# Altium integrated library Maxim Converter Data Acquisition System.IntLib: 26 symbols
Pins are listed as number, name and electrical type; pins without a type are passive.

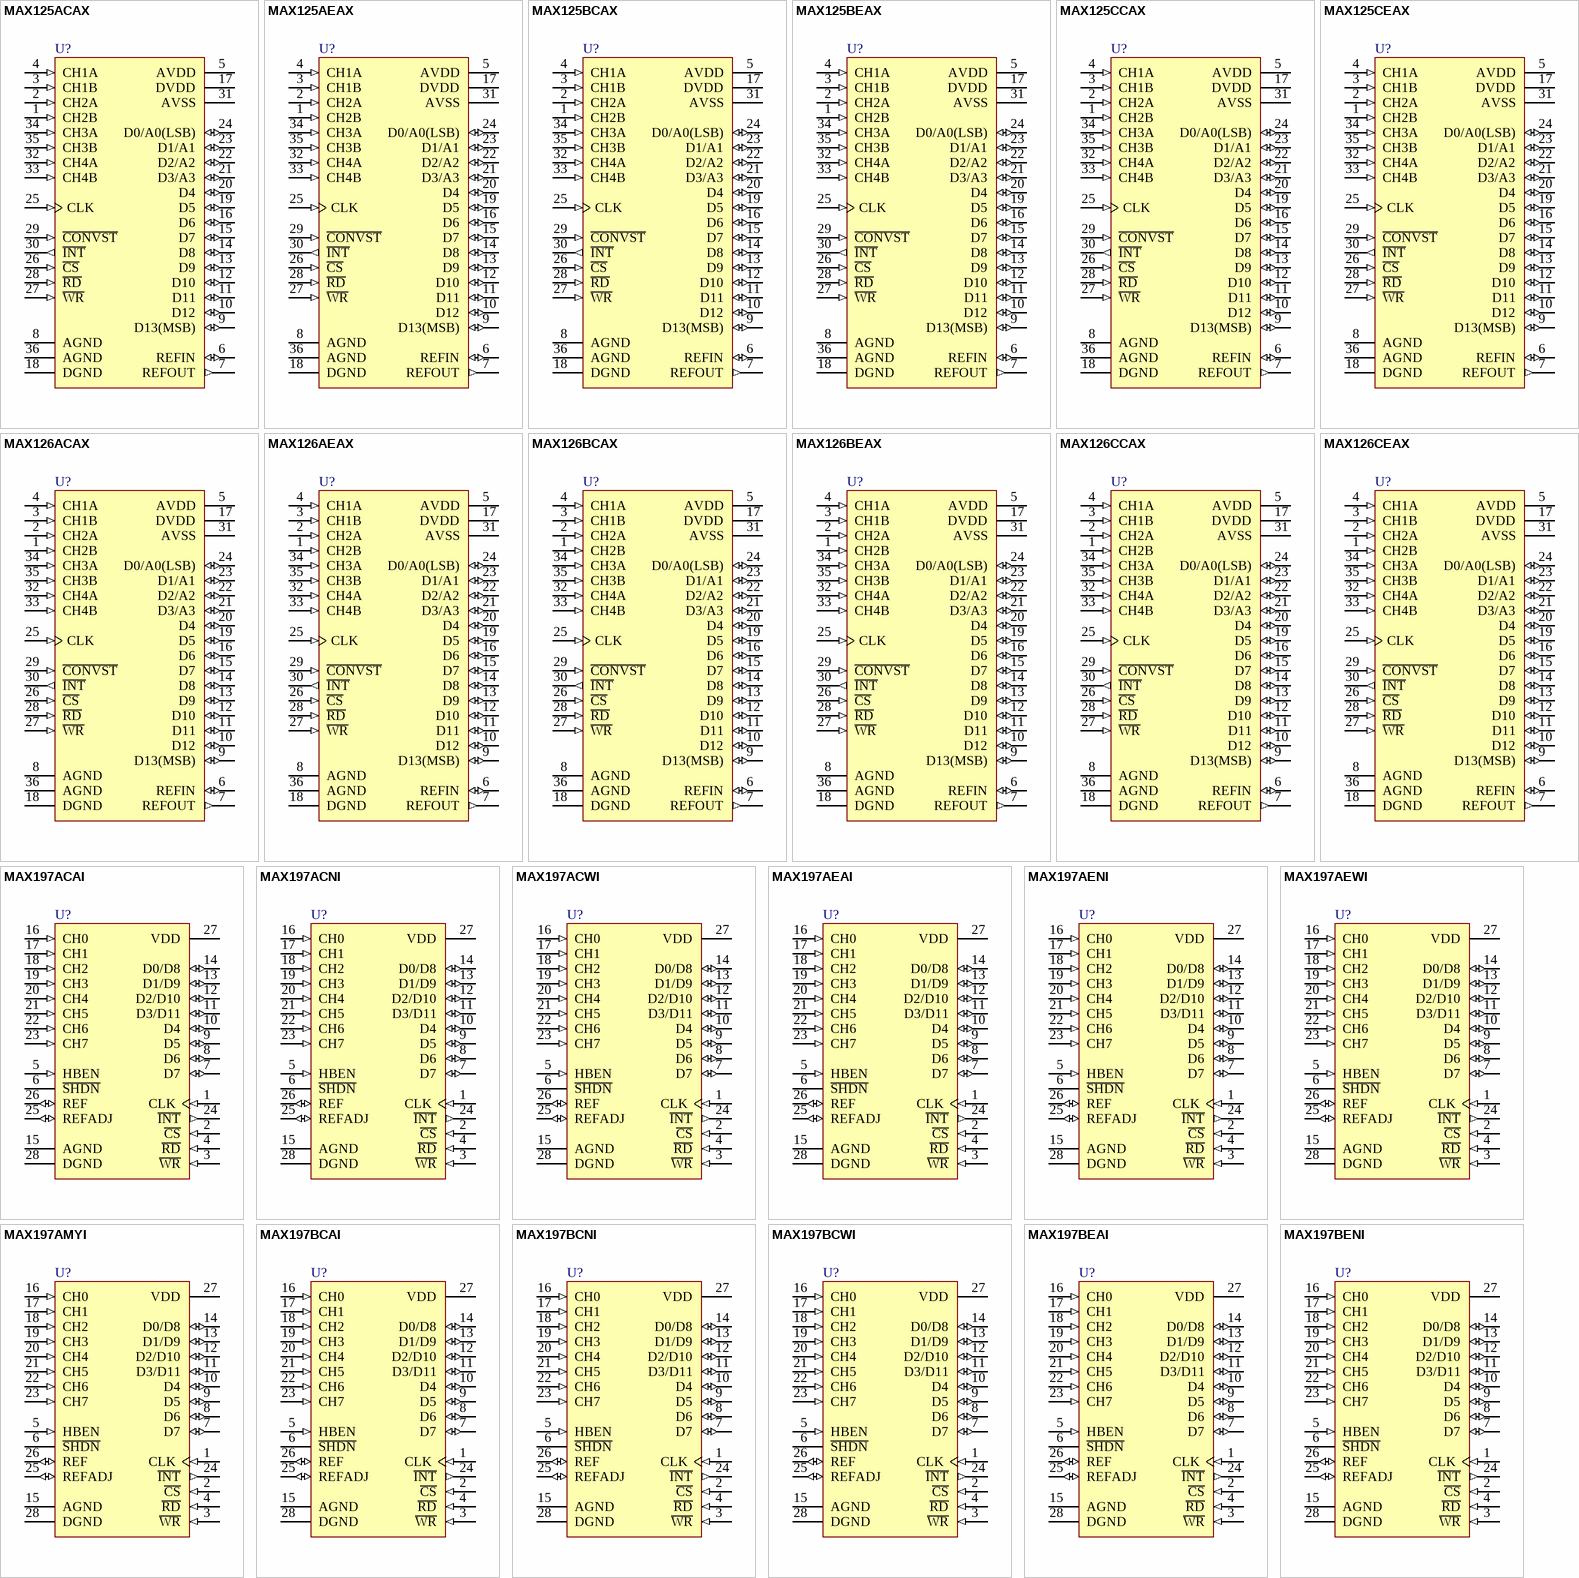
[diagram p0: symbols MAX125ACAX to MAX197BENI]

## MAX125ACAX
designator U?
2x4-Channel, Simultaneous-Sampling 14-Bit DAS; Published: 16-Jan-2001; LatestRevisionDate: 13-Apr-2006; LatestRevisionNote: IPC-7351 Footprint Added.; DatasheetVersion: Jan-1998; PackageVersion: Jan-1998; PackageReference: SSOP36; Publisher: Altium Limited; PackageDescription: 36-Pin Small Outline Package 0.8 mm Pitch; ComponentLink1Description: Manufacturer Link; ComponentLink1URL: http://www.maxim-ic.com/; ComponentLink2Description: Datasheet; ComponentLink2URL: http://pdfserv.maxim-ic.com/en/ds/MAX125-MAX126.pdf
footprint SSOP36_N (SOP, 36-Leads, Body 15.4x7.5mm, Pitch 0.8mm, IPC Medium Density)
footprint SSOP36_L (SOP, 36-Leads, Body 15.4x7.5mm, Pitch 0.8mm, IPC High Density)
footprint SSOP36_M (SOP, 36-Leads, Body 15.4x7.5mm, Pitch 0.8mm, IPC Low Density)
3D model SSOP36 (36-Pin Small Outline Package 0.8 mm Pitch)
pins: 1 CH2B (in), 2 CH2A (in), 3 CH1B (in), 4 CH1A (in), 5 AVDD (power), 6 REFIN (io), 7 REFOUT (out), 8 AGND (power), 9 D13(MSB) (io), 10 D12 (io), 11 D11 (io), 12 D10 (io), 13 D9 (io), 14 D8 (io), 15 D7 (io), 16 D6 (io), 17 DVDD (power), 18 DGND (power), 19 D5 (io), 20 D4 (io), 21 D3/A3 (io), 22 D2/A2 (io), 23 D1/A1 (io), 24 D0/A0(LSB) (io), 25 CLK (in), 26 ~{CS} (in), 27 ~{WR} (in), 28 ~{RD} (in), 29 ~{CONVST} (in), 30 ~{INT} (out), 31 AVSS (power), 32 CH4A (in), 33 CH4B (in), 34 CH3A (in), 35 CH3B (in), 36 AGND (power)

## MAX125AEAX
designator U?
2x4-Channel, Simultaneous-Sampling 14-Bit DAS; Published: 16-Jan-2001; LatestRevisionDate: 13-Apr-2006; LatestRevisionNote: IPC-7351 Footprint Added.; DatasheetVersion: Jan-1998; PackageVersion: Jan-1998; PackageReference: SSOP36; Publisher: Altium Limited; PackageDescription: 36-Pin Small Outline Package 0.8 mm Pitch; ComponentLink1Description: Manufacturer Link; ComponentLink1URL: http://www.maxim-ic.com/; ComponentLink2Description: Datasheet; ComponentLink2URL: http://pdfserv.maxim-ic.com/en/ds/MAX125-MAX126.pdf
footprint SSOP36_N (SOP, 36-Leads, Body 15.4x7.5mm, Pitch 0.8mm, IPC Medium Density)
footprint SSOP36_L (SOP, 36-Leads, Body 15.4x7.5mm, Pitch 0.8mm, IPC High Density)
footprint SSOP36_M (SOP, 36-Leads, Body 15.4x7.5mm, Pitch 0.8mm, IPC Low Density)
3D model SSOP36 (36-Pin Small Outline Package 0.8 mm Pitch)
pins: 1 CH2B (in), 2 CH2A (in), 3 CH1B (in), 4 CH1A (in), 5 AVDD (power), 6 REFIN (io), 7 REFOUT (out), 8 AGND (power), 9 D13(MSB) (io), 10 D12 (io), 11 D11 (io), 12 D10 (io), 13 D9 (io), 14 D8 (io), 15 D7 (io), 16 D6 (io), 17 DVDD (power), 18 DGND (power), 19 D5 (io), 20 D4 (io), 21 D3/A3 (io), 22 D2/A2 (io), 23 D1/A1 (io), 24 D0/A0(LSB) (io), 25 CLK (in), 26 ~{CS} (in), 27 ~{WR} (in), 28 ~{RD} (in), 29 ~{CONVST} (in), 30 ~{INT} (out), 31 AVSS (power), 32 CH4A (in), 33 CH4B (in), 34 CH3A (in), 35 CH3B (in), 36 AGND (power)

## MAX125BCAX
designator U?
2x4-Channel, Simultaneous-Sampling 14-Bit DAS; Published: 16-Jan-2001; LatestRevisionDate: 13-Apr-2006; LatestRevisionNote: IPC-7351 Footprint Added.; DatasheetVersion: Jan-1998; PackageVersion: Jan-1998; PackageReference: SSOP36; Publisher: Altium Limited; PackageDescription: 36-Pin Small Outline Package 0.8 mm Pitch; ComponentLink1Description: Manufacturer Link; ComponentLink1URL: http://www.maxim-ic.com/; ComponentLink2Description: Datasheet; ComponentLink2URL: http://pdfserv.maxim-ic.com/en/ds/MAX125-MAX126.pdf
footprint SSOP36_N (SOP, 36-Leads, Body 15.4x7.5mm, Pitch 0.8mm, IPC Medium Density)
footprint SSOP36_L (SOP, 36-Leads, Body 15.4x7.5mm, Pitch 0.8mm, IPC High Density)
footprint SSOP36_M (SOP, 36-Leads, Body 15.4x7.5mm, Pitch 0.8mm, IPC Low Density)
3D model SSOP36 (36-Pin Small Outline Package 0.8 mm Pitch)
pins: 1 CH2B (in), 2 CH2A (in), 3 CH1B (in), 4 CH1A (in), 5 AVDD (power), 6 REFIN (io), 7 REFOUT (out), 8 AGND (power), 9 D13(MSB) (io), 10 D12 (io), 11 D11 (io), 12 D10 (io), 13 D9 (io), 14 D8 (io), 15 D7 (io), 16 D6 (io), 17 DVDD (power), 18 DGND (power), 19 D5 (io), 20 D4 (io), 21 D3/A3 (io), 22 D2/A2 (io), 23 D1/A1 (io), 24 D0/A0(LSB) (io), 25 CLK (in), 26 ~{CS} (in), 27 ~{WR} (in), 28 ~{RD} (in), 29 ~{CONVST} (in), 30 ~{INT} (out), 31 AVSS (power), 32 CH4A (in), 33 CH4B (in), 34 CH3A (in), 35 CH3B (in), 36 AGND (power)

## MAX125BEAX
designator U?
2x4-Channel, Simultaneous-Sampling 14-Bit DAS; Published: 16-Jan-2001; LatestRevisionDate: 13-Apr-2006; LatestRevisionNote: IPC-7351 Footprint Added.; DatasheetVersion: Jan-1998; PackageVersion: Jan-1998; PackageReference: SSOP36; Publisher: Altium Limited; PackageDescription: 36-Pin Small Outline Package 0.8 mm Pitch; ComponentLink1Description: Manufacturer Link; ComponentLink1URL: http://www.maxim-ic.com/; ComponentLink2Description: Datasheet; ComponentLink2URL: http://pdfserv.maxim-ic.com/en/ds/MAX125-MAX126.pdf
footprint SSOP36_N (SOP, 36-Leads, Body 15.4x7.5mm, Pitch 0.8mm, IPC Medium Density)
footprint SSOP36_L (SOP, 36-Leads, Body 15.4x7.5mm, Pitch 0.8mm, IPC High Density)
footprint SSOP36_M (SOP, 36-Leads, Body 15.4x7.5mm, Pitch 0.8mm, IPC Low Density)
3D model SSOP36 (36-Pin Small Outline Package 0.8 mm Pitch)
pins: 1 CH2B (in), 2 CH2A (in), 3 CH1B (in), 4 CH1A (in), 5 AVDD (power), 6 REFIN (io), 7 REFOUT (out), 8 AGND (power), 9 D13(MSB) (io), 10 D12 (io), 11 D11 (io), 12 D10 (io), 13 D9 (io), 14 D8 (io), 15 D7 (io), 16 D6 (io), 17 DVDD (power), 18 DGND (power), 19 D5 (io), 20 D4 (io), 21 D3/A3 (io), 22 D2/A2 (io), 23 D1/A1 (io), 24 D0/A0(LSB) (io), 25 CLK (in), 26 ~{CS} (in), 27 ~{WR} (in), 28 ~{RD} (in), 29 ~{CONVST} (in), 30 ~{INT} (out), 31 AVSS (power), 32 CH4A (in), 33 CH4B (in), 34 CH3A (in), 35 CH3B (in), 36 AGND (power)

## MAX125CCAX
designator U?
2x4-Channel, Simultaneous-Sampling 14-Bit DAS; Published: 16-Jan-2001; LatestRevisionDate: 13-Apr-2006; LatestRevisionNote: IPC-7351 Footprint Added.; DatasheetVersion: Jan-1998; PackageVersion: Jan-1998; PackageReference: SSOP36; Publisher: Altium Limited; PackageDescription: 36-Pin Small Outline Package 0.8 mm Pitch; ComponentLink1Description: Manufacturer Link; ComponentLink1URL: http://www.maxim-ic.com/; ComponentLink2Description: Datasheet; ComponentLink2URL: http://pdfserv.maxim-ic.com/en/ds/MAX125-MAX126.pdf
footprint SSOP36_N (SOP, 36-Leads, Body 15.4x7.5mm, Pitch 0.8mm, IPC Medium Density)
footprint SSOP36_L (SOP, 36-Leads, Body 15.4x7.5mm, Pitch 0.8mm, IPC High Density)
footprint SSOP36_M (SOP, 36-Leads, Body 15.4x7.5mm, Pitch 0.8mm, IPC Low Density)
3D model SSOP36 (36-Pin Small Outline Package 0.8 mm Pitch)
pins: 1 CH2B (in), 2 CH2A (in), 3 CH1B (in), 4 CH1A (in), 5 AVDD (power), 6 REFIN (io), 7 REFOUT (out), 8 AGND (power), 9 D13(MSB) (io), 10 D12 (io), 11 D11 (io), 12 D10 (io), 13 D9 (io), 14 D8 (io), 15 D7 (io), 16 D6 (io), 17 DVDD (power), 18 DGND (power), 19 D5 (io), 20 D4 (io), 21 D3/A3 (io), 22 D2/A2 (io), 23 D1/A1 (io), 24 D0/A0(LSB) (io), 25 CLK (in), 26 ~{CS} (in), 27 ~{WR} (in), 28 ~{RD} (in), 29 ~{CONVST} (in), 30 ~{INT} (out), 31 AVSS (power), 32 CH4A (in), 33 CH4B (in), 34 CH3A (in), 35 CH3B (in), 36 AGND (power)

## MAX125CEAX
designator U?
2x4-Channel, Simultaneous-Sampling 14-Bit DAS; Published: 16-Jan-2001; LatestRevisionDate: 13-Apr-2006; LatestRevisionNote: IPC-7351 Footprint Added.; DatasheetVersion: Jan-1998; PackageVersion: Jan-1998; PackageReference: SSOP36; Publisher: Altium Limited; PackageDescription: 36-Pin Small Outline Package 0.8 mm Pitch; ComponentLink1Description: Manufacturer Link; ComponentLink1URL: http://www.maxim-ic.com/; ComponentLink2Description: Datasheet; ComponentLink2URL: http://pdfserv.maxim-ic.com/en/ds/MAX125-MAX126.pdf
footprint SSOP36_N (SOP, 36-Leads, Body 15.4x7.5mm, Pitch 0.8mm, IPC Medium Density)
footprint SSOP36_L (SOP, 36-Leads, Body 15.4x7.5mm, Pitch 0.8mm, IPC High Density)
footprint SSOP36_M (SOP, 36-Leads, Body 15.4x7.5mm, Pitch 0.8mm, IPC Low Density)
3D model SSOP36 (36-Pin Small Outline Package 0.8 mm Pitch)
pins: 1 CH2B (in), 2 CH2A (in), 3 CH1B (in), 4 CH1A (in), 5 AVDD (power), 6 REFIN (io), 7 REFOUT (out), 8 AGND (power), 9 D13(MSB) (io), 10 D12 (io), 11 D11 (io), 12 D10 (io), 13 D9 (io), 14 D8 (io), 15 D7 (io), 16 D6 (io), 17 DVDD (power), 18 DGND (power), 19 D5 (io), 20 D4 (io), 21 D3/A3 (io), 22 D2/A2 (io), 23 D1/A1 (io), 24 D0/A0(LSB) (io), 25 CLK (in), 26 ~{CS} (in), 27 ~{WR} (in), 28 ~{RD} (in), 29 ~{CONVST} (in), 30 ~{INT} (out), 31 AVSS (power), 32 CH4A (in), 33 CH4B (in), 34 CH3A (in), 35 CH3B (in), 36 AGND (power)

## MAX126ACAX
designator U?
2x4-Channel, Simultaneous-Sampling 14-Bit DAS; Published: 16-Jan-2001; LatestRevisionDate: 13-Apr-2006; LatestRevisionNote: IPC-7351 Footprint Added.; DatasheetVersion: Jan-1998; PackageVersion: Jan-1998; PackageReference: SSOP36; Publisher: Altium Limited; PackageDescription: 36-Pin Small Outline Package 0.8 mm Pitch; ComponentLink1Description: Manufacturer Link; ComponentLink1URL: http://www.maxim-ic.com/; ComponentLink2Description: Datasheet; ComponentLink2URL: http://pdfserv.maxim-ic.com/en/ds/MAX125-MAX126.pdf
footprint SSOP36_N (SOP, 36-Leads, Body 15.4x7.5mm, Pitch 0.8mm, IPC Medium Density)
footprint SSOP36_L (SOP, 36-Leads, Body 15.4x7.5mm, Pitch 0.8mm, IPC High Density)
footprint SSOP36_M (SOP, 36-Leads, Body 15.4x7.5mm, Pitch 0.8mm, IPC Low Density)
3D model SSOP36 (36-Pin Small Outline Package 0.8 mm Pitch)
pins: 1 CH2B (in), 2 CH2A (in), 3 CH1B (in), 4 CH1A (in), 5 AVDD (power), 6 REFIN (io), 7 REFOUT (out), 8 AGND (power), 9 D13(MSB) (io), 10 D12 (io), 11 D11 (io), 12 D10 (io), 13 D9 (io), 14 D8 (io), 15 D7 (io), 16 D6 (io), 17 DVDD (power), 18 DGND (power), 19 D5 (io), 20 D4 (io), 21 D3/A3 (io), 22 D2/A2 (io), 23 D1/A1 (io), 24 D0/A0(LSB) (io), 25 CLK (in), 26 ~{CS} (in), 27 ~{WR} (in), 28 ~{RD} (in), 29 ~{CONVST} (in), 30 ~{INT} (out), 31 AVSS (power), 32 CH4A (in), 33 CH4B (in), 34 CH3A (in), 35 CH3B (in), 36 AGND (power)

## MAX126AEAX
designator U?
2x4-Channel, Simultaneous-Sampling 14-Bit DAS; Published: 16-Jan-2001; LatestRevisionDate: 13-Apr-2006; LatestRevisionNote: IPC-7351 Footprint Added.; DatasheetVersion: Jan-1998; PackageVersion: Jan-1998; PackageReference: SSOP36; Publisher: Altium Limited; PackageDescription: 36-Pin Small Outline Package 0.8 mm Pitch; ComponentLink1Description: Manufacturer Link; ComponentLink1URL: http://www.maxim-ic.com/; ComponentLink2Description: Datasheet; ComponentLink2URL: http://pdfserv.maxim-ic.com/en/ds/MAX125-MAX126.pdf
footprint SSOP36_N (SOP, 36-Leads, Body 15.4x7.5mm, Pitch 0.8mm, IPC Medium Density)
footprint SSOP36_L (SOP, 36-Leads, Body 15.4x7.5mm, Pitch 0.8mm, IPC High Density)
footprint SSOP36_M (SOP, 36-Leads, Body 15.4x7.5mm, Pitch 0.8mm, IPC Low Density)
3D model SSOP36 (36-Pin Small Outline Package 0.8 mm Pitch)
pins: 1 CH2B (in), 2 CH2A (in), 3 CH1B (in), 4 CH1A (in), 5 AVDD (power), 6 REFIN (io), 7 REFOUT (out), 8 AGND (power), 9 D13(MSB) (io), 10 D12 (io), 11 D11 (io), 12 D10 (io), 13 D9 (io), 14 D8 (io), 15 D7 (io), 16 D6 (io), 17 DVDD (power), 18 DGND (power), 19 D5 (io), 20 D4 (io), 21 D3/A3 (io), 22 D2/A2 (io), 23 D1/A1 (io), 24 D0/A0(LSB) (io), 25 CLK (in), 26 ~{CS} (in), 27 ~{WR} (in), 28 ~{RD} (in), 29 ~{CONVST} (in), 30 ~{INT} (out), 31 AVSS (power), 32 CH4A (in), 33 CH4B (in), 34 CH3A (in), 35 CH3B (in), 36 AGND (power)

## MAX126BCAX
designator U?
2x4-Channel, Simultaneous-Sampling 14-Bit DAS; Published: 16-Jan-2001; LatestRevisionDate: 13-Apr-2006; LatestRevisionNote: IPC-7351 Footprint Added.; DatasheetVersion: Jan-1998; PackageVersion: Jan-1998; PackageReference: SSOP36; Publisher: Altium Limited; PackageDescription: 36-Pin Small Outline Package 0.8 mm Pitch; ComponentLink1Description: Manufacturer Link; ComponentLink1URL: http://www.maxim-ic.com/; ComponentLink2Description: Datasheet; ComponentLink2URL: http://pdfserv.maxim-ic.com/en/ds/MAX125-MAX126.pdf
footprint SSOP36_N (SOP, 36-Leads, Body 15.4x7.5mm, Pitch 0.8mm, IPC Medium Density)
footprint SSOP36_L (SOP, 36-Leads, Body 15.4x7.5mm, Pitch 0.8mm, IPC High Density)
footprint SSOP36_M (SOP, 36-Leads, Body 15.4x7.5mm, Pitch 0.8mm, IPC Low Density)
3D model SSOP36 (36-Pin Small Outline Package 0.8 mm Pitch)
pins: 1 CH2B (in), 2 CH2A (in), 3 CH1B (in), 4 CH1A (in), 5 AVDD (power), 6 REFIN (io), 7 REFOUT (out), 8 AGND (power), 9 D13(MSB) (io), 10 D12 (io), 11 D11 (io), 12 D10 (io), 13 D9 (io), 14 D8 (io), 15 D7 (io), 16 D6 (io), 17 DVDD (power), 18 DGND (power), 19 D5 (io), 20 D4 (io), 21 D3/A3 (io), 22 D2/A2 (io), 23 D1/A1 (io), 24 D0/A0(LSB) (io), 25 CLK (in), 26 ~{CS} (in), 27 ~{WR} (in), 28 ~{RD} (in), 29 ~{CONVST} (in), 30 ~{INT} (out), 31 AVSS (power), 32 CH4A (in), 33 CH4B (in), 34 CH3A (in), 35 CH3B (in), 36 AGND (power)

## MAX126BEAX
designator U?
2x4-Channel, Simultaneous-Sampling 14-Bit DAS; Published: 16-Jan-2001; LatestRevisionDate: 13-Apr-2006; LatestRevisionNote: IPC-7351 Footprint Added.; DatasheetVersion: Jan-1998; PackageVersion: Jan-1998; PackageReference: SSOP36; Publisher: Altium Limited; PackageDescription: 36-Pin Small Outline Package 0.8 mm Pitch; ComponentLink1Description: Manufacturer Link; ComponentLink1URL: http://www.maxim-ic.com/; ComponentLink2Description: Datasheet; ComponentLink2URL: http://pdfserv.maxim-ic.com/en/ds/MAX125-MAX126.pdf
footprint SSOP36_N (SOP, 36-Leads, Body 15.4x7.5mm, Pitch 0.8mm, IPC Medium Density)
footprint SSOP36_L (SOP, 36-Leads, Body 15.4x7.5mm, Pitch 0.8mm, IPC High Density)
footprint SSOP36_M (SOP, 36-Leads, Body 15.4x7.5mm, Pitch 0.8mm, IPC Low Density)
3D model SSOP36 (36-Pin Small Outline Package 0.8 mm Pitch)
pins: 1 CH2B (in), 2 CH2A (in), 3 CH1B (in), 4 CH1A (in), 5 AVDD (power), 6 REFIN (io), 7 REFOUT (out), 8 AGND (power), 9 D13(MSB) (io), 10 D12 (io), 11 D11 (io), 12 D10 (io), 13 D9 (io), 14 D8 (io), 15 D7 (io), 16 D6 (io), 17 DVDD (power), 18 DGND (power), 19 D5 (io), 20 D4 (io), 21 D3/A3 (io), 22 D2/A2 (io), 23 D1/A1 (io), 24 D0/A0(LSB) (io), 25 CLK (in), 26 ~{CS} (in), 27 ~{WR} (in), 28 ~{RD} (in), 29 ~{CONVST} (in), 30 ~{INT} (out), 31 AVSS (power), 32 CH4A (in), 33 CH4B (in), 34 CH3A (in), 35 CH3B (in), 36 AGND (power)

## MAX126CCAX
designator U?
2x4-Channel, Simultaneous-Sampling 14-Bit DAS; Published: 16-Jan-2001; LatestRevisionDate: 13-Apr-2006; LatestRevisionNote: IPC-7351 Footprint Added.; DatasheetVersion: Jan-1998; PackageVersion: Jan-1998; PackageReference: SSOP36; Publisher: Altium Limited; PackageDescription: 36-Pin Small Outline Package 0.8 mm Pitch; ComponentLink1Description: Manufacturer Link; ComponentLink1URL: http://www.maxim-ic.com/; ComponentLink2Description: Datasheet; ComponentLink2URL: http://pdfserv.maxim-ic.com/en/ds/MAX125-MAX126.pdf
footprint SSOP36_N (SOP, 36-Leads, Body 15.4x7.5mm, Pitch 0.8mm, IPC Medium Density)
footprint SSOP36_L (SOP, 36-Leads, Body 15.4x7.5mm, Pitch 0.8mm, IPC High Density)
footprint SSOP36_M (SOP, 36-Leads, Body 15.4x7.5mm, Pitch 0.8mm, IPC Low Density)
3D model SSOP36 (36-Pin Small Outline Package 0.8 mm Pitch)
pins: 1 CH2B (in), 2 CH2A (in), 3 CH1B (in), 4 CH1A (in), 5 AVDD (power), 6 REFIN (io), 7 REFOUT (out), 8 AGND (power), 9 D13(MSB) (io), 10 D12 (io), 11 D11 (io), 12 D10 (io), 13 D9 (io), 14 D8 (io), 15 D7 (io), 16 D6 (io), 17 DVDD (power), 18 DGND (power), 19 D5 (io), 20 D4 (io), 21 D3/A3 (io), 22 D2/A2 (io), 23 D1/A1 (io), 24 D0/A0(LSB) (io), 25 CLK (in), 26 ~{CS} (in), 27 ~{WR} (in), 28 ~{RD} (in), 29 ~{CONVST} (in), 30 ~{INT} (out), 31 AVSS (power), 32 CH4A (in), 33 CH4B (in), 34 CH3A (in), 35 CH3B (in), 36 AGND (power)

## MAX126CEAX
designator U?
2x4-Channel, Simultaneous-Sampling 14-Bit DAS; Published: 16-Jan-2001; LatestRevisionDate: 13-Apr-2006; LatestRevisionNote: IPC-7351 Footprint Added.; DatasheetVersion: Jan-1998; PackageVersion: Jan-1998; PackageReference: SSOP36; Publisher: Altium Limited; PackageDescription: 36-Pin Small Outline Package 0.8 mm Pitch; ComponentLink1Description: Manufacturer Link; ComponentLink1URL: http://www.maxim-ic.com/; ComponentLink2Description: Datasheet; ComponentLink2URL: http://pdfserv.maxim-ic.com/en/ds/MAX125-MAX126.pdf
footprint SSOP36_N (SOP, 36-Leads, Body 15.4x7.5mm, Pitch 0.8mm, IPC Medium Density)
footprint SSOP36_L (SOP, 36-Leads, Body 15.4x7.5mm, Pitch 0.8mm, IPC High Density)
footprint SSOP36_M (SOP, 36-Leads, Body 15.4x7.5mm, Pitch 0.8mm, IPC Low Density)
3D model SSOP36 (36-Pin Small Outline Package 0.8 mm Pitch)
pins: 1 CH2B (in), 2 CH2A (in), 3 CH1B (in), 4 CH1A (in), 5 AVDD (power), 6 REFIN (io), 7 REFOUT (out), 8 AGND (power), 9 D13(MSB) (io), 10 D12 (io), 11 D11 (io), 12 D10 (io), 13 D9 (io), 14 D8 (io), 15 D7 (io), 16 D6 (io), 17 DVDD (power), 18 DGND (power), 19 D5 (io), 20 D4 (io), 21 D3/A3 (io), 22 D2/A2 (io), 23 D1/A1 (io), 24 D0/A0(LSB) (io), 25 CLK (in), 26 ~{CS} (in), 27 ~{WR} (in), 28 ~{RD} (in), 29 ~{CONVST} (in), 30 ~{INT} (out), 31 AVSS (power), 32 CH4A (in), 33 CH4B (in), 34 CH3A (in), 35 CH3B (in), 36 AGND (power)

## MAX197ACAI
designator U?
Single +5V 12-Bit DAS with 8+4 Bus Interface; Published: 16-Jan-2001; LatestRevisionDate: 29-May-2009; LatestRevisionNote: IPC-7351 Footprint Added.; DatasheetVersion: Jun-1996; PackageVersion: Jul-2000; PackageReference: SSOP28; Publisher: Altium Limited; PackageDescription: 28-Pin Small Outline Package 0.65 mm Pitch; Code_JEDEC: MO-150-AH; Code_IPC: SOP65P780-28; ComponentLink1Description: Manufacturer Link; ComponentLink1URL: http://www.maxim-ic.com/; ComponentLink2Description: Datasheet; ComponentLink2URL: http://pdfserv.maxim-ic.com/en/ds/MAX197.pdf
footprint SSOP28_N (SOP, 28-Leads, Body 10.2x5.3mm, Pitch 0.65mm, IPC Medium Density)
footprint SSOP28_L (SOP, 28-Leads, Body 10.2x5.3mm, Pitch 0.65mm, IPC High Density)
footprint SSOP28_M (SOP, 28-Leads, Body 10.2x5.3mm, Pitch 0.65mm, IPC Low Density)
3D model SSOP28 (28-Pin Small Outline Package 0.65 mm Pitch)
pins: 1 CLK (in), 2 ~{CS} (in), 3 ~{WR} (in), 4 ~{RD} (in), 5 HBEN (in), 6 ~{SHDN}, 7 D7 (io), 8 D6 (io), 9 D5 (io), 10 D4 (io), 11 D3/D11 (io), 12 D2/D10 (io), 13 D1/D9 (io), 14 D0/D8 (io), 15 AGND (power), 16 CH0 (in), 17 CH1 (in), 18 CH2 (in), 19 CH3 (in), 20 CH4 (in), 21 CH5 (in), 22 CH6 (in), 23 CH7 (in), 24 ~{INT} (out), 25 REFADJ (io), 26 REF (io), 27 VDD (power), 28 DGND (power)

## MAX197ACNI
designator U?
Single +5V 12-Bit DAS with 8+4 Bus Interface; Published: 16-Jan-2001; LatestRevisionDate: 29-May-2009; LatestRevisionNote: Component Body Added.; DatasheetVersion: Jun-1996; PackageVersion: Aug-2000; PackageReference: NI28; Publisher: Altium Limited; PackageDescription: DIP, 28-Pin, Row Spacing 7.62 mm, Pitch 2.54 mm; ComponentLink1Description: Manufacturer Link; ComponentLink1URL: http://www.maxim-ic.com/; ComponentLink2Description: Datasheet; ComponentLink2URL: http://pdfserv.maxim-ic.com/en/ds/MAX197.pdf
footprint NI28 (DIP, 28-Leads, Row Spacing 7.62mm, Pitch 2.54mm, Body 34.8x7.24mm)
3D model NI28 (DIP, 28-Pin, Row Spacing 7.62 mm, Pitch 2.54 mm)
pins: 1 CLK (in), 2 ~{CS} (in), 3 ~{WR} (in), 4 ~{RD} (in), 5 HBEN (in), 6 ~{SHDN}, 7 D7 (io), 8 D6 (io), 9 D5 (io), 10 D4 (io), 11 D3/D11 (io), 12 D2/D10 (io), 13 D1/D9 (io), 14 D0/D8 (io), 15 AGND (power), 16 CH0 (in), 17 CH1 (in), 18 CH2 (in), 19 CH3 (in), 20 CH4 (in), 21 CH5 (in), 22 CH6 (in), 23 CH7 (in), 24 ~{INT} (out), 25 REFADJ (io), 26 REF (io), 27 VDD (power), 28 DGND (power)

## MAX197ACWI
designator U?
Single +5V 12-Bit DAS with 8+4 Bus Interface; Published: 16-Jan-2001; LatestRevisionDate: 13-Apr-2006; LatestRevisionNote: IPC-7351 Footprint Added.; DatasheetVersion: Jun-1996; PackageReference: WSO28; Publisher: Altium Limited; PackageDescription: 28-Pin Small Outline Integrated Circuit 1.27 mm Pitch; ComponentLink1Description: Manufacturer Link; ComponentLink1URL: http://www.maxim-ic.com/; ComponentLink2Description: Datasheet; ComponentLink2URL: http://pdfserv.maxim-ic.com/en/ds/MAX197.pdf
footprint WSO28_N (SOIC, 28-Leads, Body 17.9x7.5mm, Pitch 1.27mm, IPC Medium Density)
footprint WSO28_L (SOIC, 28-Leads, Body 17.9x7.5mm, Pitch 1.27mm, IPC High Density)
footprint WSO28_M (SOIC, 28-Leads, Body 17.9x7.5mm, Pitch 1.27mm, IPC Low Density)
3D model WSO28 (28-Pin Small Outline Integrated Circuit 1.27 mm Pitch)
pins: 1 CLK (in), 2 ~{CS} (in), 3 ~{WR} (in), 4 ~{RD} (in), 5 HBEN (in), 6 ~{SHDN}, 7 D7 (io), 8 D6 (io), 9 D5 (io), 10 D4 (io), 11 D3/D11 (io), 12 D2/D10 (io), 13 D1/D9 (io), 14 D0/D8 (io), 15 AGND (power), 16 CH0 (in), 17 CH1 (in), 18 CH2 (in), 19 CH3 (in), 20 CH4 (in), 21 CH5 (in), 22 CH6 (in), 23 CH7 (in), 24 ~{INT} (out), 25 REFADJ (io), 26 REF (io), 27 VDD (power), 28 DGND (power)

## MAX197AEAI
designator U?
Single +5V 12-Bit DAS with 8+4 Bus Interface; Published: 16-Jan-2001; LatestRevisionDate: 29-May-2009; LatestRevisionNote: IPC-7351 Footprint Added.; DatasheetVersion: Jun-1996; PackageVersion: Jul-2000; PackageReference: SSOP28; Publisher: Altium Limited; PackageDescription: 28-Pin Small Outline Package 0.65 mm Pitch; Code_JEDEC: MO-150-AH; Code_IPC: SOP65P780-28; ComponentLink1Description: Manufacturer Link; ComponentLink1URL: http://www.maxim-ic.com/; ComponentLink2Description: Datasheet; ComponentLink2URL: http://pdfserv.maxim-ic.com/en/ds/MAX197.pdf
footprint SSOP28_N (SOP, 28-Leads, Body 10.2x5.3mm, Pitch 0.65mm, IPC Medium Density)
footprint SSOP28_L (SOP, 28-Leads, Body 10.2x5.3mm, Pitch 0.65mm, IPC High Density)
footprint SSOP28_M (SOP, 28-Leads, Body 10.2x5.3mm, Pitch 0.65mm, IPC Low Density)
3D model SSOP28 (28-Pin Small Outline Package 0.65 mm Pitch)
pins: 1 CLK (in), 2 ~{CS} (in), 3 ~{WR} (in), 4 ~{RD} (in), 5 HBEN (in), 6 ~{SHDN}, 7 D7 (io), 8 D6 (io), 9 D5 (io), 10 D4 (io), 11 D3/D11 (io), 12 D2/D10 (io), 13 D1/D9 (io), 14 D0/D8 (io), 15 AGND (power), 16 CH0 (in), 17 CH1 (in), 18 CH2 (in), 19 CH3 (in), 20 CH4 (in), 21 CH5 (in), 22 CH6 (in), 23 CH7 (in), 24 ~{INT} (out), 25 REFADJ (io), 26 REF (io), 27 VDD (power), 28 DGND (power)

## MAX197AENI
designator U?
Single +5V 12-Bit DAS with 8+4 Bus Interface; Published: 16-Jan-2001; LatestRevisionDate: 29-May-2009; LatestRevisionNote: Component Body Added.; DatasheetVersion: Jun-1996; PackageVersion: Aug-2000; PackageReference: NI28; Publisher: Altium Limited; PackageDescription: DIP, 28-Pin, Row Spacing 7.62 mm, Pitch 2.54 mm; ComponentLink1Description: Manufacturer Link; ComponentLink1URL: http://www.maxim-ic.com/; ComponentLink2Description: Datasheet; ComponentLink2URL: http://pdfserv.maxim-ic.com/en/ds/MAX197.pdf
footprint NI28 (DIP, 28-Leads, Row Spacing 7.62mm, Pitch 2.54mm, Body 34.8x7.24mm)
3D model NI28 (DIP, 28-Pin, Row Spacing 7.62 mm, Pitch 2.54 mm)
pins: 1 CLK (in), 2 ~{CS} (in), 3 ~{WR} (in), 4 ~{RD} (in), 5 HBEN (in), 6 ~{SHDN}, 7 D7 (io), 8 D6 (io), 9 D5 (io), 10 D4 (io), 11 D3/D11 (io), 12 D2/D10 (io), 13 D1/D9 (io), 14 D0/D8 (io), 15 AGND (power), 16 CH0 (in), 17 CH1 (in), 18 CH2 (in), 19 CH3 (in), 20 CH4 (in), 21 CH5 (in), 22 CH6 (in), 23 CH7 (in), 24 ~{INT} (out), 25 REFADJ (io), 26 REF (io), 27 VDD (power), 28 DGND (power)

## MAX197AEWI
designator U?
Single +5V 12-Bit DAS with 8+4 Bus Interface; Published: 16-Jan-2001; LatestRevisionDate: 13-Apr-2006; LatestRevisionNote: IPC-7351 Footprint Added.; DatasheetVersion: Jun-1996; PackageReference: WSO28; Publisher: Altium Limited; PackageDescription: 28-Pin Small Outline Integrated Circuit 1.27 mm Pitch; ComponentLink1Description: Manufacturer Link; ComponentLink1URL: http://www.maxim-ic.com/; ComponentLink2Description: Datasheet; ComponentLink2URL: http://pdfserv.maxim-ic.com/en/ds/MAX197.pdf
footprint WSO28_N (SOIC, 28-Leads, Body 17.9x7.5mm, Pitch 1.27mm, IPC Medium Density)
footprint WSO28_L (SOIC, 28-Leads, Body 17.9x7.5mm, Pitch 1.27mm, IPC High Density)
footprint WSO28_M (SOIC, 28-Leads, Body 17.9x7.5mm, Pitch 1.27mm, IPC Low Density)
3D model WSO28 (28-Pin Small Outline Integrated Circuit 1.27 mm Pitch)
pins: 1 CLK (in), 2 ~{CS} (in), 3 ~{WR} (in), 4 ~{RD} (in), 5 HBEN (in), 6 ~{SHDN}, 7 D7 (io), 8 D6 (io), 9 D5 (io), 10 D4 (io), 11 D3/D11 (io), 12 D2/D10 (io), 13 D1/D9 (io), 14 D0/D8 (io), 15 AGND (power), 16 CH0 (in), 17 CH1 (in), 18 CH2 (in), 19 CH3 (in), 20 CH4 (in), 21 CH5 (in), 22 CH6 (in), 23 CH7 (in), 24 ~{INT} (out), 25 REFADJ (io), 26 REF (io), 27 VDD (power), 28 DGND (power)

## MAX197AMYI
designator U?
Single +5V 12-Bit DAS with 8+4 Bus Interface; Published: 16-Jan-2001; LatestRevisionDate: 29-May-2009; LatestRevisionNote: Component Body Added.; DatasheetVersion: Jun-1996; PackageVersion: 1994; PackageReference: DI28A; Publisher: Altium Limited; PackageDescription: DIP, 28-Pin, Row Spacing 15.24 mm, Pitch 2.54 mm; ComponentLink1Description: Manufacturer Link; ComponentLink1URL: http://www.maxim-ic.com/; ComponentLink2Description: Datasheet; ComponentLink2URL: http://pdfserv.maxim-ic.com/en/ds/MAX197.pdf
footprint DI28A (DIP, 28-Leads, Row Spacing 15.24mm, Pitch 2.54mm, Body 37.15x14.1mm)
3D model DI28A (DIP, 28-Pin, Row Spacing 15.24 mm, Pitch 2.54 mm)
pins: 1 CLK (in), 2 ~{CS} (in), 3 ~{WR} (in), 4 ~{RD} (in), 5 HBEN (in), 6 ~{SHDN}, 7 D7 (io), 8 D6 (io), 9 D5 (io), 10 D4 (io), 11 D3/D11 (io), 12 D2/D10 (io), 13 D1/D9 (io), 14 D0/D8 (io), 15 AGND (power), 16 CH0 (in), 17 CH1 (in), 18 CH2 (in), 19 CH3 (in), 20 CH4 (in), 21 CH5 (in), 22 CH6 (in), 23 CH7 (in), 24 ~{INT} (out), 25 REFADJ (io), 26 REF (io), 27 VDD (power), 28 DGND (power)

## MAX197BCAI
designator U?
Single +5V 12-Bit DAS with 8+4 Bus Interface; Published: 16-Jan-2001; LatestRevisionDate: 29-May-2009; LatestRevisionNote: IPC-7351 Footprint Added.; DatasheetVersion: Jun-1996; PackageVersion: Jul-2000; PackageReference: SSOP28; Publisher: Altium Limited; PackageDescription: 28-Pin Small Outline Package 0.65 mm Pitch; Code_JEDEC: MO-150-AH; Code_IPC: SOP65P780-28; ComponentLink1Description: Manufacturer Link; ComponentLink1URL: http://www.maxim-ic.com/; ComponentLink2Description: Datasheet; ComponentLink2URL: http://pdfserv.maxim-ic.com/en/ds/MAX197.pdf
footprint SSOP28_N (SOP, 28-Leads, Body 10.2x5.3mm, Pitch 0.65mm, IPC Medium Density)
footprint SSOP28_L (SOP, 28-Leads, Body 10.2x5.3mm, Pitch 0.65mm, IPC High Density)
footprint SSOP28_M (SOP, 28-Leads, Body 10.2x5.3mm, Pitch 0.65mm, IPC Low Density)
3D model SSOP28 (28-Pin Small Outline Package 0.65 mm Pitch)
pins: 1 CLK (in), 2 ~{CS} (in), 3 ~{WR} (in), 4 ~{RD} (in), 5 HBEN (in), 6 ~{SHDN}, 7 D7 (io), 8 D6 (io), 9 D5 (io), 10 D4 (io), 11 D3/D11 (io), 12 D2/D10 (io), 13 D1/D9 (io), 14 D0/D8 (io), 15 AGND (power), 16 CH0 (in), 17 CH1 (in), 18 CH2 (in), 19 CH3 (in), 20 CH4 (in), 21 CH5 (in), 22 CH6 (in), 23 CH7 (in), 24 ~{INT} (out), 25 REFADJ (io), 26 REF (io), 27 VDD (power), 28 DGND (power)

## MAX197BCNI
designator U?
Single +5V 12-Bit DAS with 8+4 Bus Interface; Published: 16-Jan-2001; LatestRevisionDate: 29-May-2009; LatestRevisionNote: Component Body Added.; DatasheetVersion: Jun-1996; PackageVersion: Aug-2000; PackageReference: NI28; Publisher: Altium Limited; PackageDescription: DIP, 28-Pin, Row Spacing 7.62 mm, Pitch 2.54 mm; ComponentLink1Description: Manufacturer Link; ComponentLink1URL: http://www.maxim-ic.com/; ComponentLink2Description: Datasheet; ComponentLink2URL: http://pdfserv.maxim-ic.com/en/ds/MAX197.pdf
footprint NI28 (DIP, 28-Leads, Row Spacing 7.62mm, Pitch 2.54mm, Body 34.8x7.24mm)
3D model NI28 (DIP, 28-Pin, Row Spacing 7.62 mm, Pitch 2.54 mm)
pins: 1 CLK (in), 2 ~{CS} (in), 3 ~{WR} (in), 4 ~{RD} (in), 5 HBEN (in), 6 ~{SHDN}, 7 D7 (io), 8 D6 (io), 9 D5 (io), 10 D4 (io), 11 D3/D11 (io), 12 D2/D10 (io), 13 D1/D9 (io), 14 D0/D8 (io), 15 AGND (power), 16 CH0 (in), 17 CH1 (in), 18 CH2 (in), 19 CH3 (in), 20 CH4 (in), 21 CH5 (in), 22 CH6 (in), 23 CH7 (in), 24 ~{INT} (out), 25 REFADJ (io), 26 REF (io), 27 VDD (power), 28 DGND (power)

## MAX197BCWI
designator U?
Single +5V 12-Bit DAS with 8+4 Bus Interface; Published: 16-Jan-2001; LatestRevisionDate: 13-Apr-2006; LatestRevisionNote: IPC-7351 Footprint Added.; DatasheetVersion: Jun-1996; PackageReference: WSO28; Publisher: Altium Limited; PackageDescription: 28-Pin Small Outline Integrated Circuit 1.27 mm Pitch; ComponentLink1Description: Manufacturer Link; ComponentLink1URL: http://www.maxim-ic.com/; ComponentLink2Description: Datasheet; ComponentLink2URL: http://pdfserv.maxim-ic.com/en/ds/MAX197.pdf
footprint WSO28_N (SOIC, 28-Leads, Body 17.9x7.5mm, Pitch 1.27mm, IPC Medium Density)
footprint WSO28_L (SOIC, 28-Leads, Body 17.9x7.5mm, Pitch 1.27mm, IPC High Density)
footprint WSO28_M (SOIC, 28-Leads, Body 17.9x7.5mm, Pitch 1.27mm, IPC Low Density)
3D model WSO28 (28-Pin Small Outline Integrated Circuit 1.27 mm Pitch)
pins: 1 CLK (in), 2 ~{CS} (in), 3 ~{WR} (in), 4 ~{RD} (in), 5 HBEN (in), 6 ~{SHDN}, 7 D7 (io), 8 D6 (io), 9 D5 (io), 10 D4 (io), 11 D3/D11 (io), 12 D2/D10 (io), 13 D1/D9 (io), 14 D0/D8 (io), 15 AGND (power), 16 CH0 (in), 17 CH1 (in), 18 CH2 (in), 19 CH3 (in), 20 CH4 (in), 21 CH5 (in), 22 CH6 (in), 23 CH7 (in), 24 ~{INT} (out), 25 REFADJ (io), 26 REF (io), 27 VDD (power), 28 DGND (power)

## MAX197BEAI
designator U?
Single +5V 12-Bit DAS with 8+4 Bus Interface; Published: 16-Jan-2001; LatestRevisionDate: 29-May-2009; LatestRevisionNote: IPC-7351 Footprint Added.; DatasheetVersion: Jun-1996; PackageVersion: Jul-2000; PackageReference: SSOP28; Publisher: Altium Limited; PackageDescription: 28-Pin Small Outline Package 0.65 mm Pitch; Code_JEDEC: MO-150-AH; Code_IPC: SOP65P780-28; ComponentLink1Description: Manufacturer Link; ComponentLink1URL: http://www.maxim-ic.com/; ComponentLink2Description: Datasheet; ComponentLink2URL: http://pdfserv.maxim-ic.com/en/ds/MAX197.pdf
footprint SSOP28_N (SOP, 28-Leads, Body 10.2x5.3mm, Pitch 0.65mm, IPC Medium Density)
footprint SSOP28_L (SOP, 28-Leads, Body 10.2x5.3mm, Pitch 0.65mm, IPC High Density)
footprint SSOP28_M (SOP, 28-Leads, Body 10.2x5.3mm, Pitch 0.65mm, IPC Low Density)
3D model SSOP28 (28-Pin Small Outline Package 0.65 mm Pitch)
pins: 1 CLK (in), 2 ~{CS} (in), 3 ~{WR} (in), 4 ~{RD} (in), 5 HBEN (in), 6 ~{SHDN}, 7 D7 (io), 8 D6 (io), 9 D5 (io), 10 D4 (io), 11 D3/D11 (io), 12 D2/D10 (io), 13 D1/D9 (io), 14 D0/D8 (io), 15 AGND (power), 16 CH0 (in), 17 CH1 (in), 18 CH2 (in), 19 CH3 (in), 20 CH4 (in), 21 CH5 (in), 22 CH6 (in), 23 CH7 (in), 24 ~{INT} (out), 25 REFADJ (io), 26 REF (io), 27 VDD (power), 28 DGND (power)

## MAX197BENI
designator U?
Single +5V 12-Bit DAS with 8+4 Bus Interface; Published: 16-Jan-2001; LatestRevisionDate: 29-May-2009; LatestRevisionNote: Component Body Added.; DatasheetVersion: Jun-1996; PackageVersion: Aug-2000; PackageReference: NI28; Publisher: Altium Limited; PackageDescription: DIP, 28-Pin, Row Spacing 7.62 mm, Pitch 2.54 mm; ComponentLink1Description: Manufacturer Link; ComponentLink1URL: http://www.maxim-ic.com/; ComponentLink2Description: Datasheet; ComponentLink2URL: http://pdfserv.maxim-ic.com/en/ds/MAX197.pdf
footprint NI28 (DIP, 28-Leads, Row Spacing 7.62mm, Pitch 2.54mm, Body 34.8x7.24mm)
3D model NI28 (DIP, 28-Pin, Row Spacing 7.62 mm, Pitch 2.54 mm)
pins: 1 CLK (in), 2 ~{CS} (in), 3 ~{WR} (in), 4 ~{RD} (in), 5 HBEN (in), 6 ~{SHDN}, 7 D7 (io), 8 D6 (io), 9 D5 (io), 10 D4 (io), 11 D3/D11 (io), 12 D2/D10 (io), 13 D1/D9 (io), 14 D0/D8 (io), 15 AGND (power), 16 CH0 (in), 17 CH1 (in), 18 CH2 (in), 19 CH3 (in), 20 CH4 (in), 21 CH5 (in), 22 CH6 (in), 23 CH7 (in), 24 ~{INT} (out), 25 REFADJ (io), 26 REF (io), 27 VDD (power), 28 DGND (power)

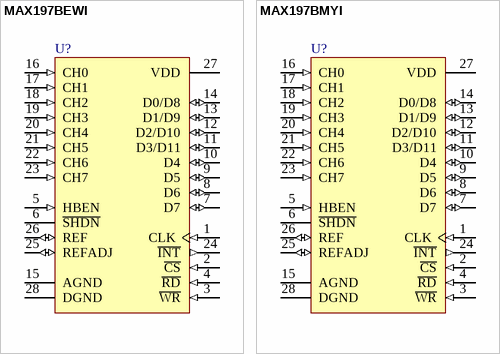
[diagram p1: symbols MAX197BEWI to MAX197BMYI]

## MAX197BEWI
designator U?
Single +5V 12-Bit DAS with 8+4 Bus Interface; Published: 16-Jan-2001; LatestRevisionDate: 13-Apr-2006; LatestRevisionNote: IPC-7351 Footprint Added.; DatasheetVersion: Jun-1996; PackageReference: WSO28; Publisher: Altium Limited; PackageDescription: 28-Pin Small Outline Integrated Circuit 1.27 mm Pitch; ComponentLink1Description: Manufacturer Link; ComponentLink1URL: http://www.maxim-ic.com/; ComponentLink2Description: Datasheet; ComponentLink2URL: http://pdfserv.maxim-ic.com/en/ds/MAX197.pdf
footprint WSO28_N (SOIC, 28-Leads, Body 17.9x7.5mm, Pitch 1.27mm, IPC Medium Density)
footprint WSO28_L (SOIC, 28-Leads, Body 17.9x7.5mm, Pitch 1.27mm, IPC High Density)
footprint WSO28_M (SOIC, 28-Leads, Body 17.9x7.5mm, Pitch 1.27mm, IPC Low Density)
3D model WSO28 (28-Pin Small Outline Integrated Circuit 1.27 mm Pitch)
pins: 1 CLK (in), 2 ~{CS} (in), 3 ~{WR} (in), 4 ~{RD} (in), 5 HBEN (in), 6 ~{SHDN}, 7 D7 (io), 8 D6 (io), 9 D5 (io), 10 D4 (io), 11 D3/D11 (io), 12 D2/D10 (io), 13 D1/D9 (io), 14 D0/D8 (io), 15 AGND (power), 16 CH0 (in), 17 CH1 (in), 18 CH2 (in), 19 CH3 (in), 20 CH4 (in), 21 CH5 (in), 22 CH6 (in), 23 CH7 (in), 24 ~{INT} (out), 25 REFADJ (io), 26 REF (io), 27 VDD (power), 28 DGND (power)

## MAX197BMYI
designator U?
Single +5V 12-Bit DAS with 8+4 Bus Interface; Published: 16-Jan-2001; LatestRevisionDate: 29-May-2009; LatestRevisionNote: Component Body Added.; DatasheetVersion: Jun-1996; PackageVersion: 1994; PackageReference: DI28A; Publisher: Altium Limited; PackageDescription: DIP, 28-Pin, Row Spacing 15.24 mm, Pitch 2.54 mm; ComponentLink1Description: Manufacturer Link; ComponentLink1URL: http://www.maxim-ic.com/; ComponentLink2Description: Datasheet; ComponentLink2URL: http://pdfserv.maxim-ic.com/en/ds/MAX197.pdf
footprint DI28A (DIP, 28-Leads, Row Spacing 15.24mm, Pitch 2.54mm, Body 37.15x14.1mm)
3D model DI28A (DIP, 28-Pin, Row Spacing 15.24 mm, Pitch 2.54 mm)
pins: 1 CLK (in), 2 ~{CS} (in), 3 ~{WR} (in), 4 ~{RD} (in), 5 HBEN (in), 6 ~{SHDN}, 7 D7 (io), 8 D6 (io), 9 D5 (io), 10 D4 (io), 11 D3/D11 (io), 12 D2/D10 (io), 13 D1/D9 (io), 14 D0/D8 (io), 15 AGND (power), 16 CH0 (in), 17 CH1 (in), 18 CH2 (in), 19 CH3 (in), 20 CH4 (in), 21 CH5 (in), 22 CH6 (in), 23 CH7 (in), 24 ~{INT} (out), 25 REFADJ (io), 26 REF (io), 27 VDD (power), 28 DGND (power)